# Altium schematic symbol library TP4056.SchLib: 1 symbol
Pins are listed as number, name and electrical type; pins without a type are passive.

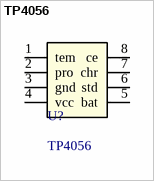
[diagram p0: symbol TP4056]

## TP4056
designator U?
pins: 1 tem, 2 pro, 3 gnd, 4 vcc, 5 bat, 6 std, 7 chr, 8 ce